# EAGLE library part MM74HC04N (library Fairchild_By_element14_Batch_1)
Hex Inverter
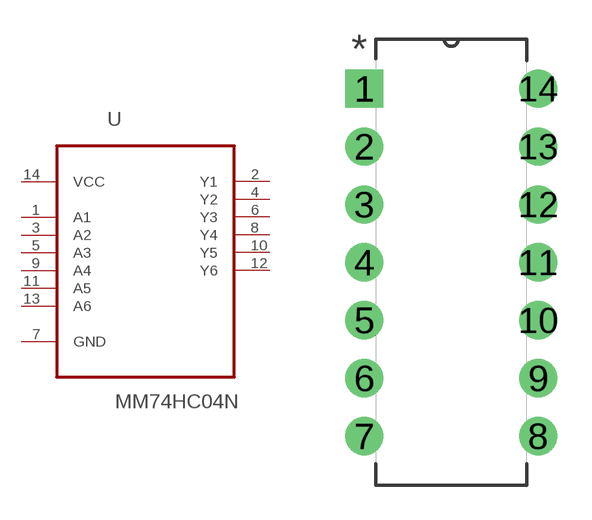
[diagram p235: symbol with the pads of DIP254P762X533-14; footprint DIP254P762X533-14]

Designator prefix U

## MM74HC04N (MPN: MM74HC04N; OC_FARNELL: 1013912; OC_NEWARK: 18C7588; PACKAGE: PDIP-14; SUPPLIER: Fairchild)  [DIP254P762X533-14]
1  A1  in
2  Y1  out
3  A2  in
4  Y2  out
5  A3  in
6  Y3  out
7  GND  pas
8  Y4  out
9  A4  in
10  Y5  out
11  A5  in
12  Y6  out
13  A6  in
14  VCC  pwr

## Footprint DIP254P762X533-14 (pad centres in mm)
drill 1.118 square: 1 -7.62,15.24
drill 1.118: 2 -7.62,12.7; 3 -7.62,10.16; 4 -7.62,7.62; 5 -7.62,5.08; 6 -7.62,2.54; 7 -7.62,0; 8 0,0; 9 0,2.54; 10 0,5.08; 11 0,7.62; 12 0,10.16; 13 0,12.7; 14 0,15.24